# EAGLE library part SQJ850EP-T2_GE3 (library SQJ850EP-T2_GE3)
MOSFET N-CHANNEL 60-V (D-S) 175C MOSFET Source: Datasheet <https://www.vishay.com/docs/65280/sqj850ep.pdf>
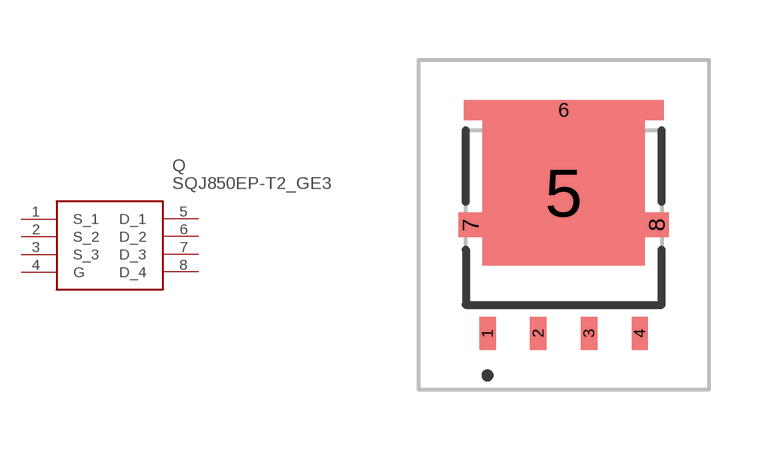
[diagram p0: symbol with the pads of SQJ850EPT2_GE3; footprint SQJ850EPT2_GE3]

Designator prefix Q

## SQJ850EP-T2_GE3 (Description: MOSFET N-CHANNEL 60-V (D-S) 175C MOSFET; Height: 1.267mm; Manufacturer_Name: Vishay; Manufacturer_Part_Number: SQJ850EP-T2_GE3; Mouser_Part_Number: 78-SQJ850EP-T2_GE3; Mouser_Price-Stock: https://www.mouser.co.uk/ProductDetail/Vishay-Siliconix/SQJ850EP-T2_GE3?qs=MLItCLRbWswojS2ixM3GlA%3D%3D)  [SQJ850EPT2_GE3]
1  S_1
2  S_2
3  S_3
4  G
5  D_1
6  D_2
7  D_3
8  D_4

## Footprint SQJ850EPT2_GE3 (pad centres in mm)
SQJ850EP-T2_GE3-2
smd 0.41 x 0.82: 1 -1.905,-2.895; 2 -0.635,-2.895; 3 0.635,-2.895; 4 1.905,-2.895
smd 4.061 x 3.63: 5 0,0.621
smd 5 x 0.51: 6 0,2.691
smd 0.595 x 0.61: 7 -2.328,-0.18; 8 2.328,-0.18